# EAGLE library part MP2307DN-LF (library MP2307DN-LF)
IC REG BUCK ADJUSTABLE 3A 8SOIC Source: Datasheet <https://componentsearchengine.com/Datasheets/1/MP2307DN-LF.pdf>
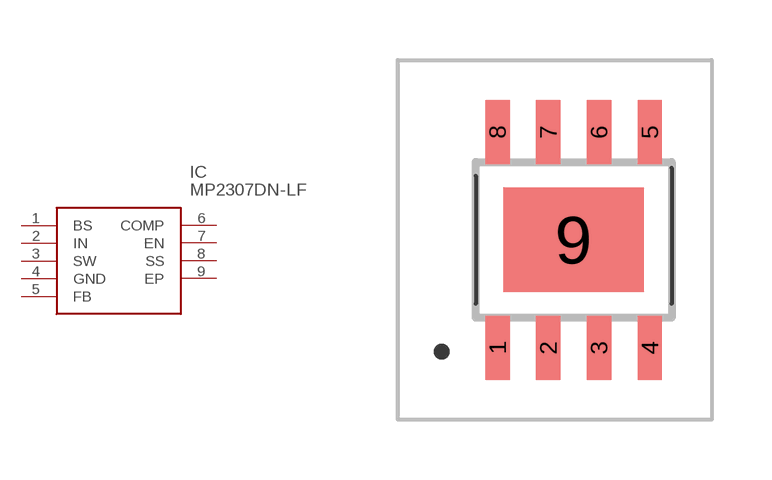
[diagram p0: symbol with the pads of MP2307DNLF; footprint MP2307DNLF]

Designator prefix IC

## MP2307DN-LF (Description: IC REG BUCK ADJUSTABLE 3A 8SOIC; Height: 1.7mm; Manufacturer_Name: Monolithic Power Systems (MPS); Manufacturer_Part_Number: MP2307DN-LF; Mouser_Part_Number: 946-MP2307DNLF; Mouser_Price-Stock: https://www.mouser.com/Search/Refine.aspx?Keyword=946-MP2307DNLF)  [MP2307DNLF]
1  BS
2  IN
3  SW
4  GND
5  FB
6  COMP
7  EN
8  SS
9  EP

## Footprint MP2307DNLF (pad centres in mm)
MP2307DN-LF-1
smd 0.61 x 1.6: 1 -1.905,-2.7; 2 -0.635,-2.7; 3 0.635,-2.7; 4 1.905,-2.7; 5 1.905,2.7; 6 0.635,2.7; 7 -0.635,2.7; 8 -1.905,2.7
smd 3.51 x 2.62: 9 0,0